# Altium schematic symbol library Devkit.SchLib: 65 symbols
Pins are listed as number, name and electrical type; pins without a type are passive.

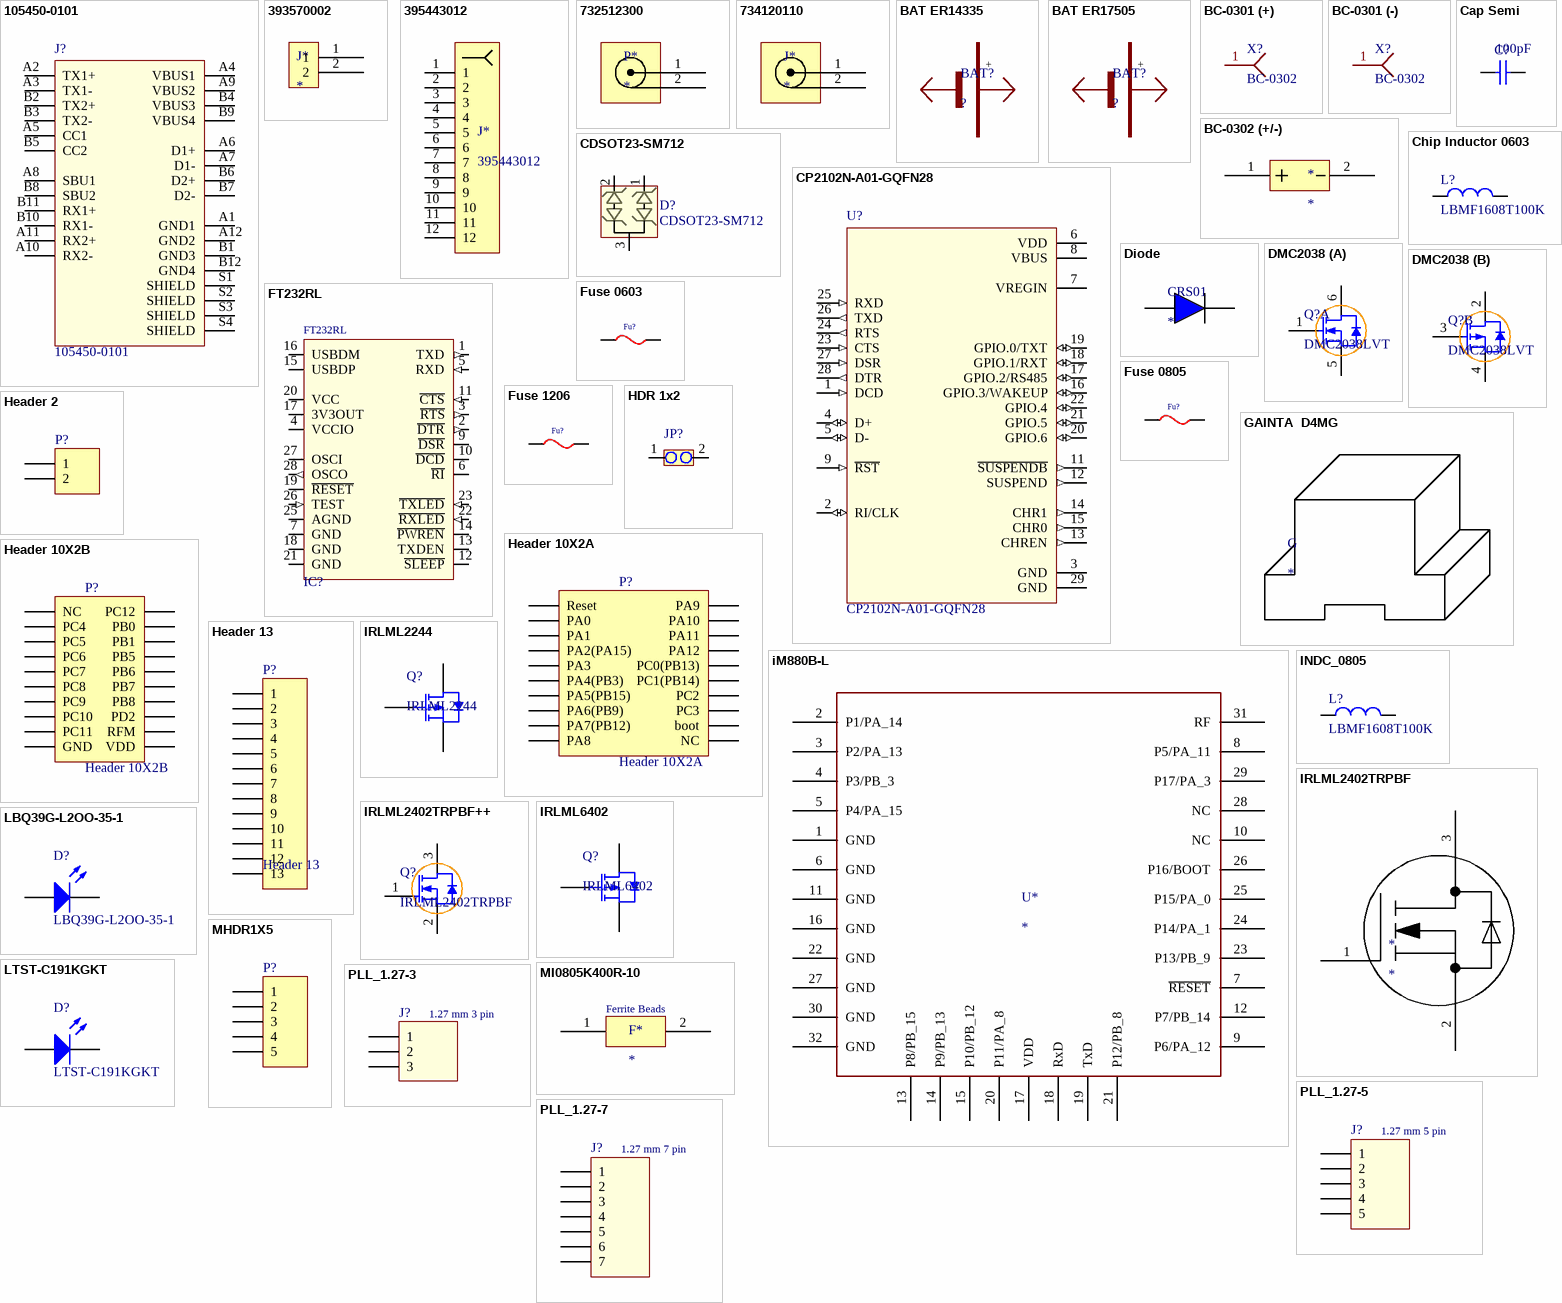
[diagram p0: symbols 105450-0101 to PLL_1.27-7]

## 105450-0101
designator J?
USB Shielded I/O Receptacle; Type C; Right Angle; Surface Mount; Gold over Nickel; MP: 1054500101; MF: Molex; Package: None; SnapEDA_Link: https://www.snapeda.com/parts/1054500101/Molex/view-part/?ref=snap; Availability: Unavailable; Price: None; Value: *
footprint *MOLEX_105450-0101_105450-0101(Primary)
pins: A1 GND1, A2 TX1+, A3 TX1-, A4 VBUS1, A5 CC1, A6 D1+, A7 D1-, A8 SBU1, A9 VBUS2, A10 RX2-, A11 RX2+, A12 GND2, B1 GND3, B2 TX2+, B3 TX2-, B4 VBUS3, B5 CC2, B6 D2+, B7 D2-, B8 SBU2, B9 VBUS4, B10 RX1-, B11 RX1+, B12 GND4, S1 SHIELD, S2 SHIELD, S3 SHIELD, S4 SHIELD

## 393570002
designator J*
footprint 393570002
pins: 1, 2

## 395443012
designator J*
5.08mm Pitch Eurostyle Vertical Fixed Mount PCB Terminal Block, 12 Circuits; Manufacture: Molex; PackageReference: 395443012; Parameter 2: *
footprint 395443012 Molex (5.08mm Pitch Eurostyle Vertical Fixed Mount PCB Terminal Block, 12 Circuits)
pins: 1, 2, 3, 4, 5, 6, 7, 8, 9, 10, 11, 12

## 732512300
designator P*
footprint 732512300
pins: 1, 2

## 734120110
designator J*
footprint 734120110
pins: 1 Ant, 2 GND

## BAT ER14335
designator BAT?, comment ?
Li-ion battery 14.5x33.5; Type Rus: Li-ion аккумулятор; Description Doc: Li-ion battery 14.5x33.5; Part Number: ?; Type Eng: LI-ion battery; Value: ?
footprint BAT_ER 14335
text: +

## BAT ER17505
designator BAT?, comment ?
Li-ion battery 17.5x50.5__3.6V_3.6A/h; Description Doc: Li-ion battery 14.5x33.5; Type Rus: Li-ion аккумулятор; Part Number: ?; Type Eng: LI-ion battery; Value: ?
footprint BAT_ER 14335
text: +

## BC-0301 (+)
designator X?, comment BC-0302
BC-0301 Battery Clip for "AA" (Comf); Description Doc: BC-0302 Battery Clip; Type Rus: Держатель батарейки; Part Number: BC-0302; Type Eng: Battery Clip; Value: BC-0302
footprint BC-0301 (+)_holder
pins: 1

## BC-0301 (-)
designator X?, comment BC-0302
BC-0301 Battery Clip for "AA" (Comf); Description Doc: BC-0302 Battery Clip; Type Rus: Держатель батарейки; Part Number: BC-0302; Type Eng: Battery Clip; Value: BC-0302
footprint BC-0301 (-)_holder
pins: 1

## BC-0302 (+/-)
designator *
Part Number: BC-0302; Manufacturer: *
footprint BC-0302
pins: 1, 2

## Cap Semi
designator C?  value 100pF
Capacitor (Semiconductor SIM Model); Published: 8-Jun-2000; LatestRevisionDate: 29-May-2009; LatestRevisionNote: IPC-7351 Footprint Added.; PackageReference: C1206; Publisher: Altium Limited; PackageDescription: Chip Capacitor
footprint C1206 (Chip Capacitor, Body 3.2x1.6mm, IPC High Density)
footprint 0402 (Chip Capacitor, Body 1.0x0.5mm, IPC High Density)
footprint C2512 (Chip Capacitor, Body 2.54x1.27mm, IPC High Density)
footprint 1608[0603] (Chip Capacitor, Body 1.6x0.8mm, IPC High Density)
footprint C1210 (Chip Capacitor, Body 3.2x2.5mm, IPC High Density)
simulation model CAP (Semiconductor Capacitor)
signal-integrity model Cap Semi
footprint 1608[0603] (Chip Capacitor, Body 1.6x0.8mm, IPC High Density)
pins: 1, 2

## CDSOT23-SM712
designator D?
Diode, Smt Tvs Array, 7vrwm & 12vrwm, Sot23 Package; MF: Bourns; Price: None; SnapEDA_Link: https://www.snapeda.com/parts/CDSOT23-SM712/Bourns%20-%20J.W.%20Miller/view-part/?ref=snap; Package: SOT-23 Bourns; Availability: Unavailable; MP: CDSOT23-SM712; Value: *
footprint *SOT-23-3
pins: 1, 2, 3

## Chip Inductor 0603
designator L?, comment LBMF1608T100K
Inductor, 10uH 468mOhms +/-10%Tol 80mA _LBMF1608T100Kl_Taiyo Yuden; Manufacturer: Murata; Part Number: LQH32CN471K23L; Package Reference: 1210
footprint CAP_0603_L (Chip Capacitor, 2-Leads, Body 1.60x0.80mm, IPC High Density)
pins: 1, 2

## CP2102N-A01-GQFN28
designator U?
Usb-Uart Interface Bridge, Qfn-28; MF: Silicon Labs; SnapEDA_Link: https://www.snapeda.com/parts/CP2102N-A01-GQFN28/Silicon%20Labs/view-part/?ref=snap; MP: CP2102N-A01-GQFN28; Package: QFN-28 Silicon Labs; Digi-Key_Purchase_URL: https://www.digikey.ru/product-detail/en/silicon-labs/CP2102N-A01-GQFN28/336-3694-ND/6012519?utm_source=snapeda&utm_medium=aggregator&utm_campaign=symbol; Digi-Key_Part_Number: 336-3694-ND; Value: *
footprint *QFN50P500X500X80-29N
pins: 1 DCD (in), 2 RI/CLK (io), 3 GND (power), 4 D+ (io), 5 D- (io), 6 VDD (power), 7 VREGIN (power), 8 VBUS (power), 9 ~{RST} (in), 11 ~{SUSPENDB} (out), 12 SUSPEND (out), 13 CHREN (out), 14 CHR1 (out), 15 CHR0 (out), 16 GPIO.3/WAKEUP (io), 17 GPIO.2/RS485 (io), 18 GPIO.1/RXT (io), 19 GPIO.0/TXT (io), 20 GPIO.6 (io), 21 GPIO.5 (io), 22 GPIO.4 (io), 23 CTS (in), 24 RTS (out), 25 RXD (in), 26 TXD (out), 27 DSR (in), 28 DTR (out), 29 GND (power)

## Diode
designator CRS01
footprint CRS01
pins: 1, 2

## DMC2038
designator Q?, comment DMC2038LVT
Complementary pair MOSFET has been designed to minimize the on-state resistance / (RDS(ON)) and yet maintain superior switching performance, making it / ideal for high efficiency power management applications.; Manufacturer: DiodesIncorporated; Fall Time: 15.6ns,2.2ns; Configuration: 1N-Channel,1P-Channel; Id - Continuous Drain Current: 3.8A,-2.5A; Transistor Polarity: N-Channel,P-Channel; Rds On - Drain-Source Resistance: 34mOhms,70mOhms; Vgs - Gate-Source Voltage: +/-12V,+/-12V; Typical Turn-On Delay Time: 1.6ns,1.7ns; Number of Channels: 2Channel; Vds - Drain-Source Breakdown Voltage: 30V,-30V; Pd - Power Dissipation: 850mW; Typical Turn-Off Delay Time: 31.2ns,18.3ns; Vgs th - Gate-Source Threshold Voltage: 500mV,-1.2V; Rise Time: 7.4ns,4.6ns; Qg - Gate Charge: 12.3nC,13.8nC; Mounting Style: SMD/SMT; Datasheet URL: http://www.diodes.com/_files/datasheets/DMG6601LVT.pdf; Package / Case: TSOT-26-6; Minimum Operating Temperature: -55C; RoHS: True; Factory Pack Quantity: 3000; Transistor Type: 1N-Channel,1P-Channel; Packaging: Reel; Package Description: 6-Pin Small Outline Transistor, Body 2.9 x 1.6 mm, Pitch 0.95 mm; Technology: Si; Manufacturer URL: http://www.diodes.com/; Product Category: MOSFET; Datasheet Version: Rev. 4-2, 08/2013; Mounting Technology: SurfaceMount; Package Reference: TSOT26-6; Maximum Operating Temperature: +150C; Series: DMG6601; Part Number: DMC2038LVT
footprint DIOD-TSOT26-6_V (SOT23, 6-Leads, Body 2.90x2.80mm, Pitch 0.95mm)
part A pins: 1 G1, 5 S1, 6 D1
part B pins: 2 S2, 3 G2, 4 D2

## FT232RL
designator IC?  (value not drawn)
USB-to-UART 1-CH 256Byte FIFO 5V 28-Pin SSOP; MF: FTDI, Future; MP: FT232RL; Availability: Unavailable; Price: None; SnapEDA_Link: https://www.snapeda.com/parts/FT232RL/FTDI%2C%20Future%20Technology%20Devices%20International%20Ltd/view-part/?ref=snap; Package: SSOP-28 FTDI, Future; Value: *
footprint *SSOP28-LD
pins: 1 TXD (out), 2 ~{DTR} (out), 3 ~{RTS} (out), 4 VCCIO (power), 5 RXD (in), 6 ~{RI}, 7 GND (power), 9 ~{DSR}, 10 ~{DCD}, 11 ~{CTS} (in), 12 ~{SLEEP}, 13 TXDEN, 14 ~{PWREN}, 15 USBDP (io), 16 USBDM (io), 17 3V3OUT (power), 18 GND (power), 19 ~{RESET}, 20 VCC (power), 21 GND (power), 22 ~{RXLED} (in), 23 ~{TXLED} (in), 25 AGND (power), 26 TEST (in), 27 OSCI, 28 OSCO (out)

## Fuse 0603
designator Fu?
SMD Fuse 0603; ComponentLink1Description: Datasheet link; ComponentLink1URL: https://ch.schurter.com/en/datasheet/typ_USF_0603.pdf
footprint Fuse 0603
pins: 1, 2
1 alternate drawing of the same symbol

## Fuse 0805
designator Fu?
SMD Fuse 0805; ComponentLink1Description: Datasheet link; ComponentLink1URL: http://www.farnell.com/datasheets/1582045.pdf?_ga=2.186957483.2070053266.1555834923-2006385665.1555834923
footprint Fuse 0805
pins: 1, 2
1 alternate drawing of the same symbol

## Fuse 1206
designator Fu?
SMD Fuse 1206; ComponentLink1Description: Datasheet link; ComponentLink1URL: http://www.farnell.com/datasheets/1582045.pdf?_ga=2.186957483.2070053266.1555834923-2006385665.1555834923
footprint Fuse 1206
pins: 1, 2
1 alternate drawing of the same symbol

## GAINTA  D4MG
designator G

## HDR 1x2
designator JP?
Header, 2-Pin; LatestRevisionDate: 17-Jul-2002; LatestRevisionNote: Re-released for DXP Platform.; Publisher: Altium Limited
footprint HDR1X2 (Connector; Header; 2 Position)
signal-integrity model Connector
pins: 1, 2

## Header 2
designator P?
Header, 2-Pin; LatestRevisionDate: 17-Jul-2002; LatestRevisionNote: Re-released for DXP Platform.; Publisher: Altium Limited
footprint HDR1X2 (Connector; Header; 2 Position)
signal-integrity model Connector
pins: 1, 2

## Header 10X2A
designator P?
Header, 10-Pin, Dual row; LatestRevisionDate: 17-Jul-2002; LatestRevisionNote: Re-released for DXP Platform.; Publisher: Altium Limited
signal-integrity model Connector
footprint HDR2X10_CEN (Connector; Header; 10x2 Position)
pins: 1 Reset, 2 PA0, 3 PA1, 4 PA2(PA15), 5 PA3, 6 PA4(PB3), 7 PA5(PB15), 8 PA6(PB9), 9 PA7(PB12), 10 PA8, 11 PA9, 12 PA10, 13 PA11, 14 PA12, 15 PC0(PB13), 16 PC1(PB14), 17 PC2, 18 PC3, 19 boot, 20 NC

## Header 10X2B
designator P?
Header, 10-Pin, Dual row; LatestRevisionDate: 17-Jul-2002; LatestRevisionNote: Re-released for DXP Platform.; Publisher: Altium Limited
signal-integrity model Connector
footprint HDR2X10_CEN (Connector; Header; 10x2 Position)
pins: 1 NC, 2 PC4, 3 PC5, 4 PC6, 5 PC7, 6 PC8, 7 PC9, 8 PC10, 9 PC11, 10 GND, 11 PC12, 12 PB0, 13 PB1, 14 PB5, 15 PB6, 16 PB7, 17 PB8, 18 PD2, 19 RFM, 20 VDD

## Header 13
designator P?
Header, 11-Pin; LatestRevisionDate: 17-Jul-2002; LatestRevisionNote: Re-released for DXP Platform.; Publisher: Altium Limited
footprint HDR1X13 (Connector; Header; 11 Position)
signal-integrity model Connector
pins: 1, 2, 3, 4, 5, 6, 7, 8, 9, 10, 11, 12, 13

## iM880B-L
designator U*
Manufacture: IMST
footprint iM880B
pins: 1 GND, 2 P1/PA_14, 3 P2/PA_13, 4 P3/PB_3, 5 P4/PA_15, 6 GND, 7 ~{RESET}, 8 P5/PA_11, 9 P6/PA_12, 10 NC, 11 GND, 12 P7/PB_14, 13 P8/PB_15, 14 P9/PB_13, 15 P10/PB_12, 16 GND, 17 VDD, 18 RxD, 19 TxD, 20 P11/PA_8, 21 P12/PB_8, 22 GND, 23 P13/PB_9, 24 P14/PA_1, 25 P15/PA_0, 26 P16/BOOT, 27 GND, 28 NC, 29 P17/PA_3, 30 GND, 31 RF, 32 GND

## INDC_0805
designator L?, comment LBMF1608T100K
Manufacturer: Murata; Part Number: LQH32CN471K23L; Package Reference: 1210
footprint INDUC_0805_M
pins: 1, 2

## IRLML2244
designator Q?
P-channel MOSFET with RdsOn = 95mOhm @ -2.5V; Manufacturer: IR; Part Number: IRLML2244TRPbF; Package Reference: SOT23
footprint SOT23_L+ (SOT23, 3-Leads, Body 2.9x1.3mm, Pitch 0.95mm, Lead Span 2.3mm, IPC High Density)
footprint SOT23_M+ (SOT23, 3-Leads, Body 2.9x1.3mm, Pitch 0.95mm, Lead Span 2.3mm, IPC Low Density)
footprint SOT23_N+ (SOT23, 3-Leads, Body 2.9x1.3mm, Pitch 0.95mm, Lead Span 2.3mm, IPC Medium Density)
pins: 1 G, 2 S, 3 D

## IRLML2402TRPBF
designator *
footprint IRLML2402TRPBF
pins: 1, 2, 3

## IRLML2402TRPBF++
designator Q?, comment IRLML2402TRPBF
Manufacturer: DiodesIncorporated; Part Number: IRLML2402TRPBF; Package Reference: TSOT26-6
footprint SOT23_L (SOT23, 3-Leads, Body 2.9x1.3 mm, Pitch 0.95 mm, IPC High Density)
footprint SOT23_L+ (SOT23, 3-Leads, Body 2.9x1.3mm, Pitch 0.95mm, Lead Span 2.3mm, IPC High Density)
footprint SOT23_M (SOT23, 3-Leads, Body 2.9x1.3 mm, Pitch 0.95 mm, IPC Low Density)
footprint SOT23_M+ (SOT23, 3-Leads, Body 2.9x1.3mm, Pitch 0.95mm, Lead Span 2.3mm, IPC Low Density)
footprint SOT23_N (SOT23, 3-Leads, Body 2.9x1.3 mm, Pitch 0.95 mm, IPC Medium Density)
footprint SOT23_N+ (SOT23, 3-Leads, Body 2.9x1.3mm, Pitch 0.95mm, Lead Span 2.3mm, IPC Medium Density)
pins: 1 G, 2 S, 3 D

## IRLML6402
designator Q?
P-channel Power MOSFET with RdsOn = 0.065Ohm, Vdss -20v. Micro3/SOT23.; Manufacturer: IR; Part Number: IRLML2244TRPbF; Package Reference: SOT23
footprint SOT23_L (SOT23, 3-Leads, Body 2.9x1.3 mm, Pitch 0.95 mm, IPC High Density)
footprint SOT23_M (SOT23, 3-Leads, Body 2.9x1.3 mm, Pitch 0.95 mm, IPC Low Density)
footprint SOT23_N (SOT23, 3-Leads, Body 2.9x1.3 mm, Pitch 0.95 mm, IPC Medium Density)
footprint SOT23_L+ (SOT23, 3-Leads, Body 2.9x1.3mm, Pitch 0.95mm, Lead Span 2.3mm, IPC High Density)
footprint SOT23_N+ (SOT23, 3-Leads, Body 2.9x1.3mm, Pitch 0.95mm, Lead Span 2.3mm, IPC Medium Density)
footprint SOT23_M+ (SOT23, 3-Leads, Body 2.9x1.3mm, Pitch 0.95mm, Lead Span 2.3mm, IPC Low Density)
pins: 1 G, 2 S, 3 D

## LBQ39G-L2OO-35-1
designator D?
Typical INFRARED GaAs LED; Published: 8-Jun-2000; LatestRevisionDate: 08-Jul-2005; LatestRevisionNote: Mech Layer 1 removed.; PackageReference: LED-0; Publisher: Altium Limited; PackageDescription: LED; 2 Leads
footprint LED-0 (LED; 2 Leads)
simulation model LED0 (Diode)
pins: 1 A, 2 K

## LTST-C191KGKT
designator D?
Chip LED, Green, 574 nm, 40 pF, -55 to 85 degC, 2-Pin SMD, RoHS, Tape and Reel; Manufacturer: Lite-On; Package Reference: 0603; Part Number: LTST-C191KGKT
footprint LED0603
pins: 1 A, 2 K

## MHDR1X5
designator P?
Header, 5-Pin; LatestRevisionDate: 17-Jul-2002; LatestRevisionNote: Re-released for DXP Platform.; Publisher: Altium Limited
footprint MHDR1X5 (Connector; Header; 5 Position)
signal-integrity model Connector
pins: 1, 2, 3, 4, 5

## MI0805K400R-10
designator F*
footprint *INDC2012X110N
pins: 1, 2
text: Ferrite Beads

## PLL_1.27-3
designator J?, comment 1.27 mm 3 pin
Pin Header, pitch 1.27 mm; Part Number: 62201021121; Rated Current: 1 A; Pin Number: 10; Pitch: 1.27 mm; Row Number: Dual; Working Voltage: 100 VAC; Contact Resistance: 20 mOhm; Insulation Resistance: >1000 MOhm; ComponentLink1Description: Manufacturer; ComponentLink1URL: http://www.we-online.de; ComponentLink2Description: Datasheet; ComponentLink2URL: http://katalog.we-online.de/em/datasheet/62201021121.pdf; Published Date: Jan. 2018; Publisher: Wurth Elektronik; Operating Temperature: -40 to 105 degC; Mounting Technology: THT; Orientation: Vertical
footprint PLL1.27-3 (Pin Header, pitch 1.27 mm,)
pins: 1, 2, 3

## PLL_1.27-5
designator J?, comment 1.27 mm 5 pin
Pin Header, pitch 1.27 mm; Part Number: 62201021121; Rated Current: 1 A; Pin Number: 10; Pitch: 1.27 mm; Row Number: Dual; Working Voltage: 100 VAC; Contact Resistance: 20 mOhm; Insulation Resistance: >1000 MOhm; ComponentLink1Description: Manufacturer; ComponentLink1URL: http://www.we-online.de; ComponentLink2Description: Datasheet; ComponentLink2URL: http://katalog.we-online.de/em/datasheet/62201021121.pdf; Published Date: Jan. 2018; Publisher: Wurth Elektronik; Operating Temperature: -40 to 105 degC; Mounting Technology: THT; Orientation: Vertical
footprint PLL1.27-5 (Pin Header, pitch 1.27 mm)
pins: 1, 2, 3, 4, 5

## PLL_1.27-7
designator J?, comment 1.27 mm 7 pin
Pin Header, pitch 1.27 mm; Part Number: 62201021121; Rated Current: 1 A; Pin Number: 10; Pitch: 1.27 mm; Row Number: Dual; Working Voltage: 100 VAC; Contact Resistance: 20 mOhm; Insulation Resistance: >1000 MOhm; ComponentLink1Description: Manufacturer; ComponentLink1URL: http://www.we-online.de; ComponentLink2Description: Datasheet; ComponentLink2URL: http://katalog.we-online.de/em/datasheet/62201021121.pdf; Published Date: Jan. 2018; Publisher: Wurth Elektronik; Operating Temperature: -40 to 105 degC; Mounting Technology: THT; Orientation: Vertical
footprint PLL1.27-7 (Pin Header, pitch 1.27 mm)
pins: 1, 2, 3, 4, 5, 6, 7

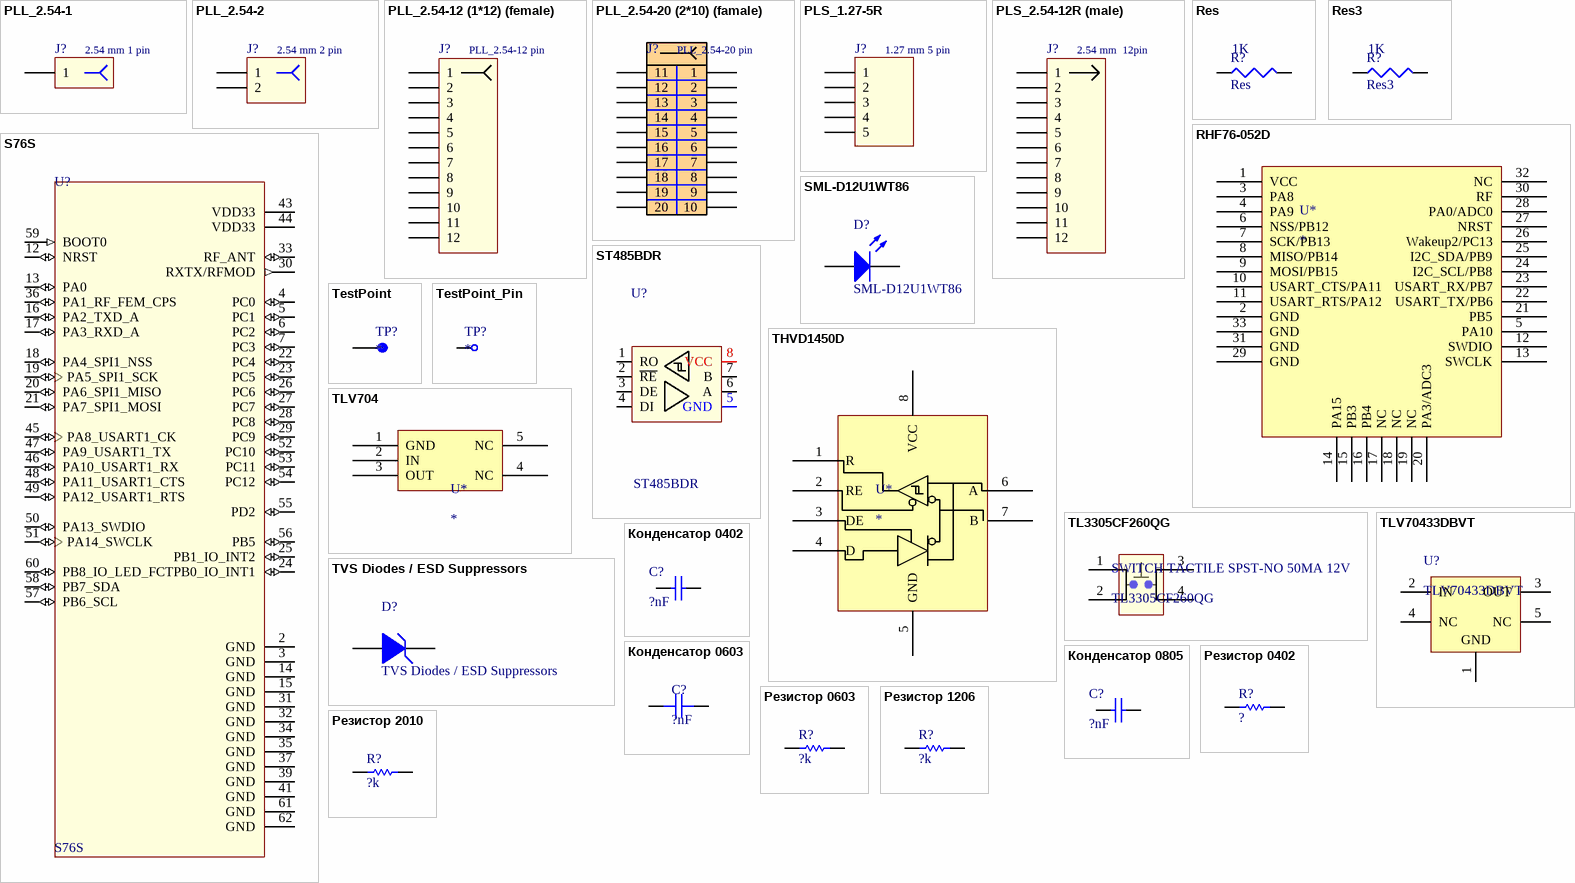
[diagram p1: symbols PLL_2.54-1 to Резистор 2010]

## PLL_2.54-1
designator J?, comment 2.54 mm 1 pin
1 Pin Header, pitch 2.54 mm; Part Number: 62201021121; Rated Current: 1 A; Pin Number: 10; Pitch: 1.27 mm; Row Number: Dual; Working Voltage: 100 VAC; Contact Resistance: 20 mOhm; Insulation Resistance: >1000 MOhm; ComponentLink1Description: Manufacturer; ComponentLink1URL: http://www.we-online.de; ComponentLink2Description: Datasheet; ComponentLink2URL: http://katalog.we-online.de/em/datasheet/62201021121.pdf; Published Date: Jan. 2018; Publisher: Wurth Elektronik; Operating Temperature: -40 to 105 degC; Mounting Technology: THT; Orientation: Vertical
footprint PLS2.54-1 (female) (1  Pin Header, pitch 2.54 mm)
pins: 1

## PLL_2.54-2
designator J?, comment 2.54 mm 2 pin
2 Pin Header, pitch 2.54 mm; Part Number: 62201021121; Rated Current: 1 A; Pin Number: 10; Pitch: 1.27 mm; Row Number: Dual; Working Voltage: 100 VAC; Contact Resistance: 20 mOhm; Insulation Resistance: >1000 MOhm; ComponentLink1Description: Manufacturer; ComponentLink1URL: http://www.we-online.de; ComponentLink2Description: Datasheet; ComponentLink2URL: http://katalog.we-online.de/em/datasheet/62201021121.pdf; Published Date: Jan. 2018; Publisher: Wurth Elektronik; Operating Temperature: -40 to 105 degC; Mounting Technology: THT; Orientation: Vertical
footprint PLS2.54-2 (female) (2 Pin Header, pitch 2.54 mm)
pins: 1, 2

## PLL_2.54-12 (1*12) (female)
designator J?, comment PLL_2.54-12 pin
PLL_2.54-12 (1*12)_Female, pitch 2.54 mm; Part Number: 62201021121; Rated Current: 1 A; Pin Number: 10; Pitch: 1.27 mm; Row Number: Dual; Working Voltage: 100 VAC; Contact Resistance: 20 mOhm; Insulation Resistance: >1000 MOhm; ComponentLink1Description: Manufacturer; ComponentLink1URL: http://www.we-online.de; ComponentLink2Description: Datasheet; ComponentLink2URL: http://katalog.we-online.de/em/datasheet/62201021121.pdf; Published Date: Jan. 2018; Publisher: Wurth Elektronik; Operating Temperature: -40 to 105 degC; Mounting Technology: THT; Orientation: Vertical
footprint PLS2.54-12R (female) (12 Pin Header, pitch 2.54 mm)
pins: ?1 1, ?2 2, ?3 3, ?4 4, ?5 5, ?6 6, ?7 7, ?8 8, ?9 9, ?10 10, ?11 11, ?12 12

## PLL_2.54-20 (2*10) (famale)
designator J?, comment PLL_2.54-20 pin
PLL_2.54-20  (2*10)_ Famale, pitch 2.54 mm; Part Number: 62201021121; Rated Current: 1 A; Pin Number: 10; Pitch: 1.27 mm; Row Number: Dual; Working Voltage: 100 VAC; Contact Resistance: 20 mOhm; Insulation Resistance: >1000 MOhm; ComponentLink1Description: Manufacturer; ComponentLink1URL: http://www.we-online.de; ComponentLink2Description: Datasheet; ComponentLink2URL: http://katalog.we-online.de/em/datasheet/62201021121.pdf; Published Date: Jan. 2018; Publisher: Wurth Elektronik; Operating Temperature: -40 to 105 degC; Mounting Technology: THT; Orientation: Vertical
footprint PLL 2.54-20 (2*10) (20 Pin Header, pitch 2.54 mm)
pins: 1, 2, 3, 4, 5, 6, 7, 8, 9, 10, 11, 12, 13, 14, 15, 16, 17, 18, 19, 20

## PLS_1.27-5R
designator J?, comment 1.27 mm 5 pin
pitch 1.27 mm; Part Number: 62201021121; Rated Current: 1 A; Pin Number: 10; Pitch: 1.27 mm; Row Number: Dual; Working Voltage: 100 VAC; Contact Resistance: 20 mOhm; Insulation Resistance: >1000 MOhm; ComponentLink1Description: Manufacturer; ComponentLink1URL: http://www.we-online.de; ComponentLink2Description: Datasheet; ComponentLink2URL: http://katalog.we-online.de/em/datasheet/62201021121.pdf; Published Date: Jan. 2018; Publisher: Wurth Elektronik; Operating Temperature: -40 to 105 degC; Mounting Technology: THT; Orientation: Vertical
footprint PLS1.27-5R (Pin Header, pitch 1.27 mm)
pins: 1, 2, 3, 4, 5

## PLS_2.54-12R (male)
designator J?, comment 2.54 mm  12pin
MALE_PLS pitch 2.54 mm; Part Number: 62201021121; Rated Current: 1 A; Pin Number: 10; Pitch: 1.27 mm; Row Number: Dual; Working Voltage: 100 VAC; Contact Resistance: 20 mOhm; Insulation Resistance: >1000 MOhm; ComponentLink1Description: Manufacturer; ComponentLink1URL: http://www.we-online.de; ComponentLink2Description: Datasheet; ComponentLink2URL: http://katalog.we-online.de/em/datasheet/62201021121.pdf; Published Date: Jan. 2018; Publisher: Wurth Elektronik; Operating Temperature: -40 to 105 degC; Mounting Technology: THT; Orientation: Vertical
footprint PLS2.54-12R (male) (12 Pin Header, pitch 2.54 mm)
pins: ?1 1, ?2 2, ?3 3, ?4 4, ?5 5, ?6 6, ?7 7, ?8 8, ?9 9, ?10 10, ?11 11, ?12 12

## Res
designator R?  value 1K
Resistor; Published: 8-Jun-2000; LatestRevisionDate: 29-May-2009; LatestRevisionNote: IPC-7351 Footprint Added.; PackageReference: J1-0603; Publisher: Altium Limited; PackageDescription: Chip Resistor
footprint J1-0603 (Chip Resistor, Body 1.6x0.8mm, IPC High Density)
footprint 14-1210 (Chip Resistor, Body 3.2x2.5mm, IPC High Density)
footprint 12Z-2010 (Chip Resistor, Body 5.0x2.5mm, IPC High Density)
footprint RESC6332 (Chip Resistor, Body 6.3x3.2mm, IPC High Density)
simulation model RESISTOR (Resistor)
signal-integrity model Res
pins: 1, 2

## Res3
designator R?  value 1K
Resistor; Published: 8-Jun-2000; LatestRevisionDate: 29-May-2009; LatestRevisionNote: IPC-7351 Footprint Added.; PackageReference: J1-0603; Publisher: Altium Limited; PackageDescription: Chip Resistor
footprint J1-0603 (Chip Resistor, Body 1.6x0.8mm, IPC High Density)
footprint 14-1210 (Chip Resistor, Body 3.2x2.5mm, IPC High Density)
footprint 12Z-2010 (Chip Resistor, Body 5.0x2.5mm, IPC High Density)
footprint RESC6332 (Chip Resistor, Body 6.3x3.2mm, IPC High Density)
simulation model RESISTOR (Resistor)
signal-integrity model Res
pins: 1, 2

## RHF76-052D
designator U*
Manufacture: IoTiger
footprint RHF76-052D
pins: 1 VCC, 2 GND, 3 PA8, 4 PA9, 5 PA10, 6 NSS/PB12, 7 SCK/PB13, 8 MISO/PB14, 9 MOSI/PB15, 10 USART_CTS/PA11, 11 USART_RTS/PA12, 12 SWDIO, 13 SWCLK, 14 PA15, 15 PB3, 16 PB4, 17 NC, 18 NC, 19 NC, 20 PA3/ADC3, 21 PB5, 22 USART_TX/PB6, 23 USART_RX/PB7, 24 I2C_SCL/PB8, 25 I2C_SDA/PB9, 26 Wakeup2/PC13, 27 NRST, 28 PA0/ADC0, 29 GND, 30 RF, 31 GND, 32 NC, 33 GND

## S76S
designator U?
MF: Nexperia USA; SnapEDA_Link: https://www.snapeda.com/parts/S76s/Nexperia%20USA%20Inc./view-part/?ref=snap; Price: None; Availability: Unavailable; Package: SOD-323 Nexperia USA; MP: S76s; Value: *
footprint *ACSIP_S76S
pins: 2 GND (power), 3 GND (power), 4 PC0 (io), 5 PC1 (io), 6 PC2 (io), 7 PC3 (io), 12 NRST (io), 13 PA0 (io), 14 GND (power), 15 GND (power), 16 PA2_TXD_A (io), 17 PA3_RXD_A (io), 18 PA4_SPI1_NSS (io), 19 PA5_SPI1_SCK (io), 20 PA6_SPI1_MISO (io), 21 PA7_SPI1_MOSI (io), 22 PC4 (io), 23 PC5 (io), 24 PB0_IO_INT1 (io), 25 PB1_IO_INT2 (io), 26 PC6 (io), 27 PC7 (io), 28 PC8 (io), 29 PC9 (io), 30 RXTX/RFMOD (out), 31 GND (power), 32 GND (power), 33 RF_ANT (io), 34 GND (power), 35 GND (power), 36 PA1_RF_FEM_CPS (io), 37 GND (power), 39 GND (power), 41 GND (power), 43 VDD33 (power), 44 VDD33 (power), 45 PA8_USART1_CK (io), 46 PA10_USART1_RX (io), 47 PA9_USART1_TX (io), 48 PA11_USART1_CTS (io), 49 PA12_USART1_RTS (io), 50 PA13_SWDIO (io), 51 PA14_SWCLK (io), 52 PC10 (io), 53 PC11 (io), 54 PC12 (io), 55 PD2 (io), 56 PB5 (io), 57 PB6_SCL (io), 58 PB7_SDA (io), 59 BOOT0 (in), 60 PB8_IO_LED_FCT (io), 61 GND (power), 62 GND (power)

## SML-D12U1WT86
designator D?
Typical INFRARED GaAs LED; Published: 8-Jun-2000; LatestRevisionDate: 08-Jul-2005; LatestRevisionNote: Mech Layer 1 removed.; PackageReference: LED-0; Publisher: Altium Limited; PackageDescription: LED; 2 Leads
footprint LED-0 (LED; 2 Leads)
simulation model LED0 (Diode)
pins: 1 A, 2 K

## ST485BDR
designator U?
ST485B 5 V 2.5 Mbps Low Power RS-485/RS-422 Transceiver - SOIC-8 _- 40 to 85 В°C_; MF: STMicroelectronics; SnapEDA_Link: https://www.snapeda.com/parts/ST485BDR/STMicroelectronics/view-part/?ref=snap; MP: ST485BDR; Package: SOIC-8 STMicroelectronics; Digi-Key_Purchase_URL: https://www.digikey.ru/product-detail/en/stmicroelectronics/ST485BDR/497-3733-1-ND/686451?utm_source=snapeda&utm_medium=aggregator&utm_campaign=symbol; Digi-Key_Part_Number: 497-3733-1-ND; Value: *
footprint *SOIC127P600X175-8N
pins: 1 RO (power), 2 ~{RE} (power), 3 DE (power), 4 DI (power), 5 GND, 6 A (power), 7 B (power), 8 VCC (power)

## TestPoint
designator TP?
footprint TestPoint (1mm Pad)
pins: 1 "Test Point"

## TestPoint_Pin
designator TP?
footprint Test Point_Pin (female) (1  Pin Header, pitch 2.54 mm)
pins: 1 "Test Point"

## THVD1450D
designator U*
footprint *SOIC127P600X175-8N
pins: 1 R, 2 RE, 3 DE, 4 D, 5 GND, 6 A, 7 B, 8 VCC

## TL3305CF260QG
designator SWITCH TACTILE SPST-NO 50MA 12V
SWITCH TACTILE SPST-NO 50MA 12V; Part Number: TL3305CF260QG; PackageReference: *; Manufacturer: *
footprint TL3305CF260QG
pins: 1, 2, 3, 4

## TLV704
designator U*
footprint *SOT95P280X145-5N
pins: 1 GND, 2 IN, 3 OUT, 4 NC, 5 NC

## TLV70433DBVT
designator U?
Single Output LDO, 150 mA, Fixed 3.3 V Output, 2.5 to 24 V Input, with Ultra-Low IQ, 5-pin SOT-23 (DBV), -40 to 125 degC, Green (RoHS & no Sb/Br); Manufacturer: Texas Instruments; ComponentLink2Description: Datasheet; ComponentLink1URL: http://www.ti.com/; ComponentLink1Description: Manufacturer URL; ComponentLink3URL: http://www.ti.com/litv/pdf/mpds018i; ComponentLink2URL: http://www.ti.com/general/docs/lit/getliterature.tsp?genericPartNumber=TLV70433&fileType=pdf; Part Number: TLV70433DBVT; ComponentLink3Description: Package Specification; Package Reference: SOT23-5
footprint SOT23_5_L (SOT23, 5-Leads, Body 3.05x1.75mm, Pitch 0.95mm, IPC High Density)
footprint SOT23_5_N (SOT23, 5-Leads, Body 3.05x1.75mm, Pitch 0.95mm, IPC Medium Density)
footprint SOT23_5_M (SOT23, 5-Leads, Body 3.05x1.75mm, Pitch 0.95mm, IPC Low Density)
pins: 1 GND (power) "Ground", 2 IN (power) "Unregulated input voltage", 3 OUT (power) "Regulated output voltage. Any capacitor 1 uF or greater between this pin and ground is needed for stability", 4 NC "No connection. This pin can be left open or tied to ground for improved thermal performance", 5 NC "No connection. This pin can be left open or tied to ground for improved thermal performance"

## TVS Diodes / ESD Suppressors
designator D?
LatestRevisionNote: Mech Layer 1 removed.; PackageReference: LED-0; PackageDescription: LED; 2 Leads
footprint DO-214AA
footprint DO-214AC
footprint DO-214AB
pins: 1 Anode, 2 Cathode

## Конденсатор 0402
designator C?, comment ?nF
Package Reference: 0402
footprint CAP_0402_L (Chip Capacitor, 2-Leads, Body 1.05x0.55mm, IPC High Density)
footprint CAP_0402_M (Chip Capacitor, 2-Leads, Body 1.05x0.55mm, IPC Low Density)
footprint CAP_0402_N (Chip Capacitor, 2-Leads, Body 1.05x0.55mm, IPC Medium Density)
pins: 1, 2

## Конденсатор 0603
designator C?, comment ?nF
Package Reference: 0603
footprint CAP_0603_L (Chip Capacitor, 2-Leads, Body 1.60x0.80mm, IPC High Density)
footprint CAP_0603_M (Chip Capacitor, 2-Leads, Body 1.60x0.80mm, IPC Low Density)
footprint CAP_0603_N (Chip Capacitor, 2-Leads, Body 1.60x0.80mm, IPC Medium Density)
footprint CAP_0603_BSN_1 (2-Leads, Body 1.55x0.85mm)
footprint CAP_0603_BSN_2 (2-Leads, Body 1.55x0.85mm)
footprint CAP_0603_BSN_3 (2-Leads, Body 1.55x0.85mm)
footprint CAP_0603_BSN_4 (2-Leads, Body 1.55x0.85mm)
pins: 1, 2

## Конденсатор 0805
designator C?, comment ?nF
Package Reference: 0805
footprint CAP_0805_L (Chip Capacitor, Body 2.0x1.2mm, Height 1.45mm, IPC High Density)
footprint CAP_0805_M (Chip Capacitor, Body 2.0x1.2mm, Height 1.45mm, IPC Low Density)
footprint CAP_0805_N (Chip Capacitor, Body 2.0x1.2mm, Height 1.45mm, IPC Medium Density)
pins: 1, 2

## Резистор 0402
designator R?, comment ?
?k ?% 0402; Package Reference: 0402
footprint RES_0402_L (Chip Resistor, 2-Leads, Body 1.00x0.50mm, IPC High Density)
footprint CAP_0402_M (Chip Capacitor, 2-Leads, Body 1.05x0.55mm, IPC Low Density)
footprint CAP_0402_N (Chip Capacitor, 2-Leads, Body 1.05x0.55mm, IPC Medium Density)
pins: 1, 2
1 alternate drawing of the same symbol

## Резистор 0603
designator R?, comment ?k
?k ?% 0603; Package Reference: 0603
footprint RES_0603_L (Chip Resistor, 2-Leads, Body 1.55x0.85mm, IPC High Density)
footprint RES_0603_M (Chip Resistor, 2-Leads, Body 1.55x0.85mm, IPC Low Density)
footprint RES_0603_N (Chip Resistor, 2-Leads, Body 1.55x0.85mm, IPC Medium Density)
footprint RES_0603_BSN (2-Leads, Body 1.55x0.85mm)
pins: 1, 2
1 alternate drawing of the same symbol

## Резистор 1206
designator R?, comment ?k
?k ?% 1206; Package Reference: 1206
footprint RES_1206_L (Chip Resistor, 2-Leads, Body 3.3x1.75mm, IPC High Density)
footprint RES_1206_M (Chip Resistor, 2-Leads, Body 3.3x1.75mm, IPC Low Density)
footprint RES_1206_N (Chip Resistor, 2-Leads, Body 3.3x1.75mm, IPC Medium Density)
pins: 1, 2
1 alternate drawing of the same symbol

## Резистор 2010
designator R?, comment ?k
?k ?% SMD RES 2010; Package Reference: 2010
footprint RES_2010 (Chip Resistor, 2-Leads, Body 5.0x2.54mm)
pins: 1, 2
1 alternate drawing of the same symbol